# Altium footprint library 2N3904BU.PcbLib: 1 footprints
Each footprint in its own frame and in the unit in brackets; x right, y up, seen from the top. Pads: shape width x height; smd on the part's side, far side on the other; paste and mask are expansions set on the pad; w line width, h text height; cw(c..) or ccw(c..) is an arc to the next point about the centre after c.
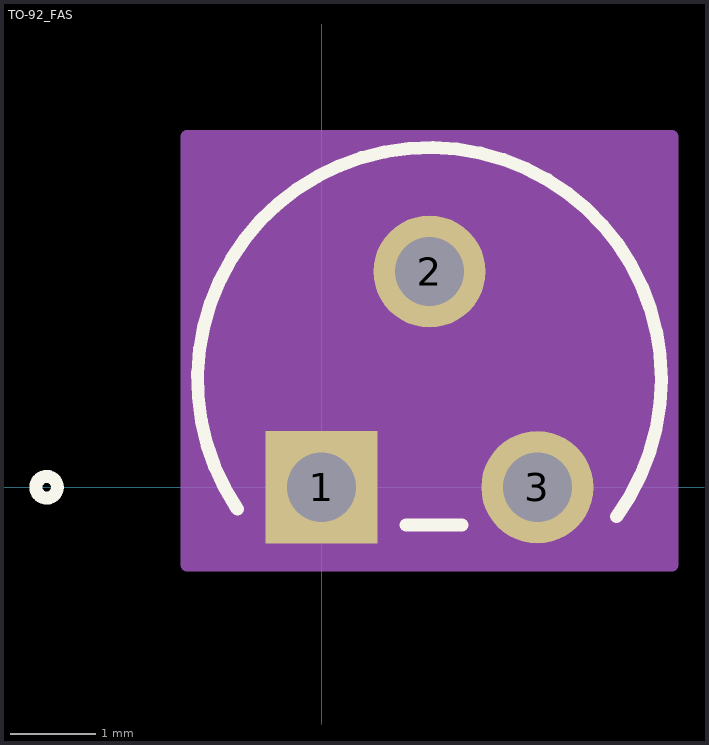
[diagram p0: the footprint, top view; thin cyan lines are the x and y axes]

## TO-92_FAS [mil]
pads (3):
  rect 52x52 hole 32 paste-26 mask+0: 1(0,0)
  round 52 hole 32 paste-26 mask+0: 2(50,100) 3(100,0)
Top Overlay:
  circle w6: c-127.5,0 r5
  lines w6: -39.1,-10.15 cw(c50,50) 157.5,50 cw(c50,50) 136.65,-13.63 ; 39.1,-17.5 65.03,-17.5
  text ".Designator" at -87.5,25 h50
Mechanical 13:
  circle w1: c-42.5,0 r5
  lines w1: -31.24,-12.5 cw(c50,50) 131.24,-12.5 -31.24,-12.5
  lines w6: -10,0 10,0 ; 0,-10 0,10
  text ".Designator" at -87.5,25 h50
Mechanical 15:
  region: 162.5,-36 -62.5,-36 -62.5,162.5 162.5,162.5
  lines w6: -62.5,-36 162.5,-36 162.5,162.5 -62.5,162.5 -62.5,-36
3D body "TO-92_FAS.step": height 210, standoff -187.99, extent -52.39,-10.98 152.39,152.04